# EAGLE library part 10118194-0001LF (library 10118194-0001LF)
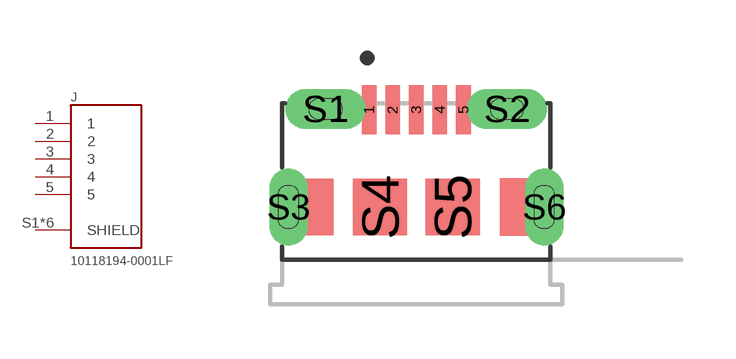
[diagram p0: symbol with the pads of AMPHENOL_10118194-0001LF; footprint AMPHENOL_10118194-0001LF]

Designator prefix J

## 10118194-0001LF (MANUFACTURER: Amphenol ICC; MAXIMUM_PACKAGE_HEIGHT: 2.66 mm; PARTREV: D; STANDARD: Manufacturer Recommendations)  [AMPHENOL_10118194-0001LF]
1  1  pas
2  2  pas
3  3  pas
4  4  pas
5  5  pas
S1  SHIELD  pas
S2  SHIELD  pas
S3  SHIELD  pas
S4  SHIELD  pas
S5  SHIELD  pas
S6  SHIELD  pas

## Footprint AMPHENOL_10118194-0001LF (pad centres in mm)
smd 0.4 x 1.35: 1 -1.3,2.675; 2 -0.65,2.675; 3 0,2.675; 4 0.65,2.675; 5 1.3,2.675
drill 0.6 pad 0.8 long: S1 -2.5,2.7; S2 2.5,2.7
drill 0.55 pad 0.75 long: S3 -3.525,0; S6 3.525,0
smd 1.5 x 1.55: S4 -1,0; S5 1,0